# Altium footprint library SwitchesG.PcbLib: 1 footprints
Each footprint in its own frame and in the unit in brackets; x right, y up, seen from the top. Pads: shape width x height; smd on the part's side, far side on the other; paste and mask are expansions set on the pad; w line width, h text height; cw(c..) or ccw(c..) is an arc to the next point about the centre after c.
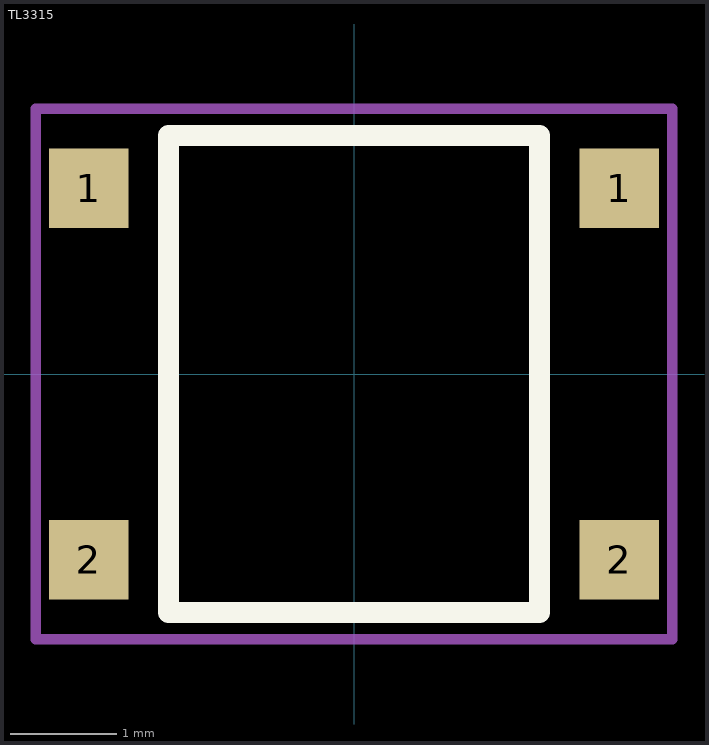
[diagram p0: the footprint, top view; thin cyan lines are the x and y axes]

## TL3315 [mm] "Momentary switch"
height 0.55
pads (4):
  rect 0.75x0.75 smd: 1(-2.5,1.75) 1(2.5,1.75) 2(-2.5,-1.75) 2(2.5,-1.75)
Top Overlay:
  lines w0.2: -1.75,-2.25 1.75,-2.25 1.75,2.25 -1.75,2.25 -1.75,-2.25
Mechanical 15:
  lines w0.1: -3,-2.5 -3,2.5 3,2.5 3,-2.5 -3,-2.5